# Altium footprint library TVS.PcbLib: 4 footprints
Each footprint in its own frame and in the unit in brackets; x right, y up, seen from the top. Pads: shape width x height; smd on the part's side, far side on the other; paste and mask are expansions set on the pad; w line width, h text height; cw(c..) or ccw(c..) is an arc to the next point about the centre after c.
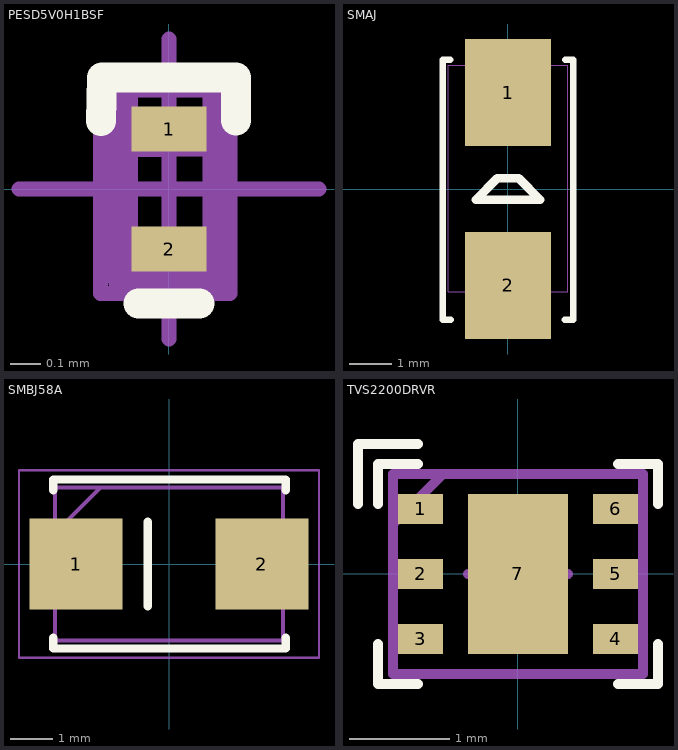
[diagram p0: the footprints below, top view; thin cyan lines are the x and y axes]

## PESD5V0H1BSF [mm] "Ultra low capacitance bidirectional ESD protection diode"
pads (2):
  rect 0.25x0.15 smd mask-2539.97: 1(0,0.2) 2(0,-0.2)
Top Overlay:
  lines w0.1: -0.227,0.227 -0.224,0.372 0.223,0.372 0.223,0.229 ; -0.102,-0.381 0.102,-0.381
Top Solder:
  region: -0.15,0.3 0.15,0.3 0.15,0.1 -0.15,0.1
  region: -0.15,-0.1 0.15,-0.1 0.15,-0.3 -0.15,-0.3
Top Designator:
  text ".Designator" at -0.581,-2.539 h0.51
Mechanical 13:
  lines w0.1: -0.154,0.156 0.161,0.159 ; -0.154,-0.305 -0.154,0.356 0.161,0.356 0.161,-0.305 -0.154,-0.305
Mechanical 15:
  lines w0.05: -0.5,0 0.5,0 ; 0,-0.5 0,0.5 ; -0.229,-0.349 -0.229,0.373 0.203,0.373 0.203,-0.349 -0.229,-0.349
3D body "DFN40P60X32-2L.step": height 0.32, standoff 0, extent -0.162,-0.312 0.163,0.313

## SMAJ [mm] "DO-214AC"
pads (2):
  rect 2x2.5 smd: 1(0,2.25) 2(0,-2.25)
Top Overlay:
  lines w0.152: -1.344,3.017 -1.524,3.017 -1.524,-3.05 -1.341,-3.05 ; 1.327,-3.05 1.524,-3.05 1.524,3.017 1.333,3.017
  lines w0.2: -0.75,-0.25 0.75,-0.25 0.25,0.25 -0.25,0.25 -0.75,-0.25
Top Designator:
  text ".Designator" at -7.618,-0.508 h1.52
Mechanical 13:
  lines w0.025: -1.397,-2.393 1.397,-2.393 1.397,2.89 -1.397,2.89 -1.397,-2.393
3D body "DIODE_DO214AC.step": height 2.34, standoff 0, extent -1.397,-2.692 1.397,2.592

## SMBJ58A [mm] "TVS DIODE DO-214AA, SMB"
pads (2):
  rect 2.2x2.15 smd: 1(-2.2,0) 2(2.2,0)
Top Overlay:
  lines w0.2: -2.742,-1.75 -2.742,-2 2.758,-2 2.758,-1.75 ; -2.742,1.75 -2.742,2 2.758,2 2.758,1.75 ; -0.5,-1 -0.5,1
Top Designator:
  text ".Designator" at -7.618,-0.508 h1.52
Mechanical 13:
  lines w0.1: -2.7,0.735 -1.625,1.81 ; -2.7,-1.81 2.7,-1.81 2.7,1.81 -2.7,1.81 -2.7,-1.81
Mechanical 15:
  lines w0.05: -3.55,-2.22 3.55,-2.22 3.55,2.22 -3.55,2.22 -3.55,-2.22
3D body "SMBJ58A.stp": height 2.44, standoff 0, extent -2.7,-1.81 2.7,1.81

## TVS2200DRVR [mm] "-40?~+125? 1.12kW@8/20us 105pF 22V 25.9V 27.7V 3.5nA 40A@8/20us IEC 61000-4-2 TVS Unidirectional WSON-6-EP(2x2) ESD and Surge Protection (TVS/ESD) ROHS"
pads (7):
  rect 0.45x0.3 smd mask-2539.97: 1(-0.975,0.65) 2(-0.975,0) 3(-0.975,-0.65) 4(0.975,-0.65) 5(0.975,0) 6(0.975,0.65)
  rect 1x1.6 smd mask-2539.97: 7(0,0)
Top Overlay:
  lines w0.1: -1.6,0.7 -1.6,1.3 -1,1.3 ; -1.4,-0.7 -1.4,-1.1 -1,-1.1 ; -1.4,0.7 -1.4,1.1 -1,1.1 ; 1,-1.1 1.4,-1.1 1.4,-0.7 ; 1,1.1 1.4,1.1 1.4,0.7
Top Solder:
  region: -1.25,0.45 -1.25,0.85 -0.7,0.85 -0.7,0.45
  region: -1.25,-0.2 -1.25,0.2 -0.7,0.2 -0.7,-0.2
  region: -1.25,-0.85 -1.25,-0.45 -0.7,-0.45 -0.7,-0.85
  region: 0.7,0.45 0.7,0.85 1.25,0.85 1.25,0.45
  region: 0.7,-0.2 0.7,0.2 1.25,0.2 1.25,-0.2
  region: 0.7,-0.85 0.7,-0.45 1.25,-0.45 1.25,-0.85
  region: -0.55,-0.85 -0.55,0.85 0.55,0.85 0.55,-0.85
Top Designator:
  text ".Designator" at -1.598,1.572 h0.51
Mechanical 13:
  lines w0.1: -1.25,0.5 -0.75,1 ; -1.25,-1 -1.25,1 1.25,1 1.25,-1 -1.25,-1
Mechanical 15:
  lines w0.05: -1.25,-1 -1.25,1 1.25,1 1.25,-1 -1.25,-1
  lines w0.1: -0.5,0 0.5,0 ; 0,-0.5 0,0.5
3D body "SON65P200X80_HS-7L.step": height 0.8, standoff 0, extent -1.13,-1.05 1.13,1.05